# EAGLE library part CONN_SCREWTERM_3.5MM_12POS_RECEPT (library power_distro)
TERM BLOCK HDR 12POS 90DEG 3.5MM
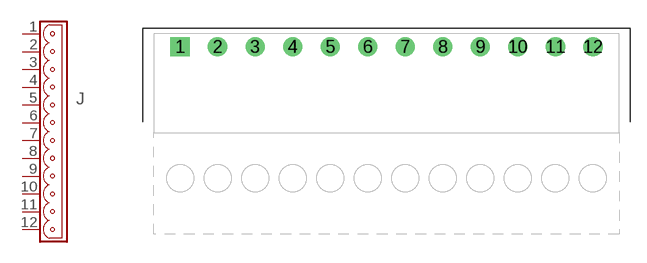
[diagram p7: symbol with the pads of PHOENIX_1844317; footprint PHOENIX_1844317]

Designator prefix J

## CONN_SCREWTERM_3.5MM_12POS_RECEPT (MFG: PHOENIX CONTACT; MPN: 1844317; PRICE: 7.04; VENDOR: DIGIKEY; VPN: 277-5902-ND)  [PHOENIX_1844317]
1  1  pas
2  2  pas
3  3  pas
4  4  pas
5  5  pas
6  6  pas
7  7  pas
8  8  pas
9  9  pas
10  10  pas
11  11  pas
12  12  pas

## Footprint PHOENIX_1844317 (pad centres in mm)
drill 1.2 square: 1 -19.25,0
drill 1.2 round: 2 -15.75,0; 3 -12.25,0; 4 -8.75,0; 5 -5.25,0; 6 -1.75,0; 7 1.75,0; 8 5.25,0; 9 8.75,0; 10 12.25,0; 11 15.75,0; 12 19.25,0